# Altium integrated library ST Power Mgt Supervisory Circuit.IntLib: 14 symbols
Pins are listed as number, name and electrical type; pins without a type are passive.

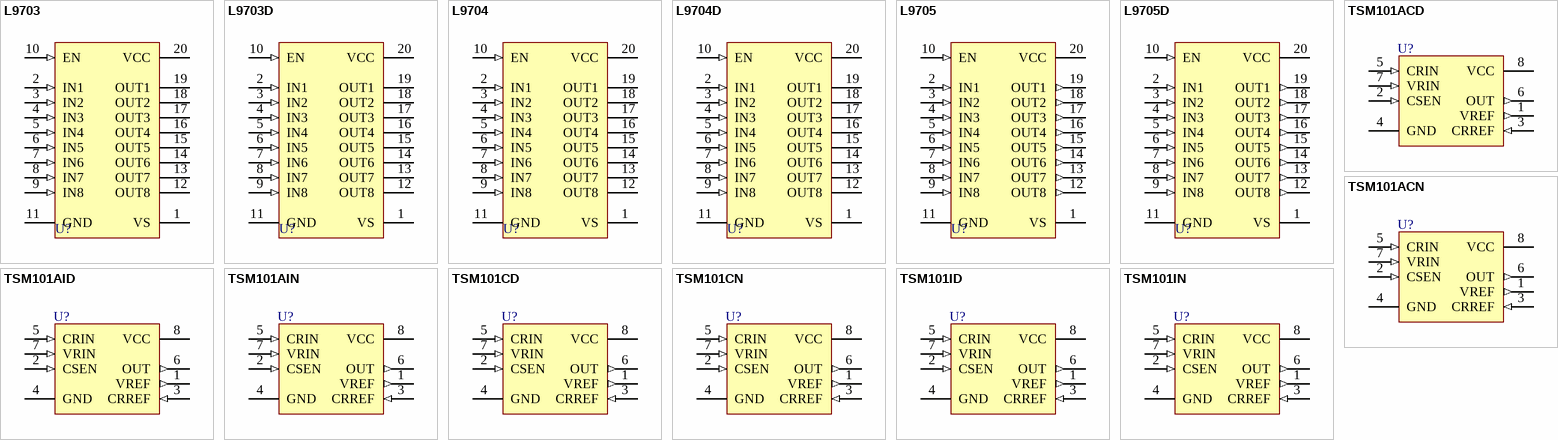
[diagram p0: symbols L9703 to TSM101IN]

## L9703
designator U?
Octal Ground Contact Monitoring Circuit; Published: 24-Aug-2001; LatestRevisionDate: 17-Jul-2002; LatestRevisionNote: Re-released for DXP Platform.; DatasheetDocument: Mar-1992; PackageDocument: Jun-1998; PackageReference: DIP20; Publisher: Altium Limited; Code_JEDEC: MS-015-AE
footprint DIP20 (DIP; 20 Leads; Row Spacing 7.62 mm; Pitch 2.54 mm)
pins: 1 VS (power), 2 IN1 (in), 3 IN2 (in), 4 IN3 (in), 5 IN4 (in), 6 IN5 (in), 7 IN6 (in), 8 IN7 (in), 9 IN8 (in), 10 EN (in), 11 GND (power), 12 OUT8 (hiz), 13 OUT7 (hiz), 14 OUT6 (hiz), 15 OUT5 (hiz), 16 OUT4 (hiz), 17 OUT3 (hiz), 18 OUT2 (hiz), 19 OUT1 (hiz), 20 VCC (power)

## L9703D
designator U?
Octal Ground Contact Monitoring Circuit; Published: 24-Aug-2001; LatestRevisionDate: 17-Jul-2002; LatestRevisionNote: Re-released for DXP Platform.; DatasheetDocument: Mar-1992; PackageDocument: Jul-2001; PackageReference: SO20; Publisher: Altium Limited; Code_JEDEC: MS-013-AC; Code_IPC: SO20W
footprint SO20 (Small Outline, Plastic; 20 Leads; Body Width 7.5 mm; Pitch 1.27 mm)
pins: 1 VS (power), 2 IN1 (in), 3 IN2 (in), 4 IN3 (in), 5 IN4 (in), 6 IN5 (in), 7 IN6 (in), 8 IN7 (in), 9 IN8 (in), 10 EN (in), 11 GND (power), 12 OUT8 (hiz), 13 OUT7 (hiz), 14 OUT6 (hiz), 15 OUT5 (hiz), 16 OUT4 (hiz), 17 OUT3 (hiz), 18 OUT2 (hiz), 19 OUT1 (hiz), 20 VCC (power)

## L9704
designator U?
Octal Supply Contact Monitoring Circuit; Published: 24-Aug-2001; LatestRevisionDate: 17-Jul-2002; LatestRevisionNote: Re-released for DXP Platform.; DatasheetDocument: Mar-1992; PackageDocument: Jun-1998; PackageReference: DIP20; Publisher: Altium Limited; Code_JEDEC: MS-015-AE
footprint DIP20 (DIP; 20 Leads; Row Spacing 7.62 mm; Pitch 2.54 mm)
pins: 1 VS (power), 2 IN1 (in), 3 IN2 (in), 4 IN3 (in), 5 IN4 (in), 6 IN5 (in), 7 IN6 (in), 8 IN7 (in), 9 IN8 (in), 10 EN (in), 11 GND (power), 12 OUT8 (hiz), 13 OUT7 (hiz), 14 OUT6 (hiz), 15 OUT5 (hiz), 16 OUT4 (hiz), 17 OUT3 (hiz), 18 OUT2 (hiz), 19 OUT1 (hiz), 20 VCC (power)

## L9704D
designator U?
Octal Supply Contact Monitoring Circuit; Published: 24-Aug-2001; LatestRevisionDate: 17-Jul-2002; LatestRevisionNote: Re-released for DXP Platform.; DatasheetDocument: Mar-1992; PackageDocument: Jul-2001; PackageReference: SO20; Publisher: Altium Limited; Code_JEDEC: MS-013-AC; Code_IPC: SO20W
footprint SO20 (Small Outline, Plastic; 20 Leads; Body Width 7.5 mm; Pitch 1.27 mm)
pins: 1 VS (power), 2 IN1 (in), 3 IN2 (in), 4 IN3 (in), 5 IN4 (in), 6 IN5 (in), 7 IN6 (in), 8 IN7 (in), 9 IN8 (in), 10 EN (in), 11 GND (power), 12 OUT8 (hiz), 13 OUT7 (hiz), 14 OUT6 (hiz), 15 OUT5 (hiz), 16 OUT4 (hiz), 17 OUT3 (hiz), 18 OUT2 (hiz), 19 OUT1 (hiz), 20 VCC (power)

## L9705
designator U?
Double Quad Contact Monitoring Circuit; Published: 24-Aug-2001; LatestRevisionDate: 17-Jul-2002; LatestRevisionNote: Re-released for DXP Platform.; DatasheetDocument: Jan-1992; PackageDocument: Mar-1995; PackageReference: PwrDIP20; Publisher: Altium Limited
footprint PwrDIP20 (DIP; 20 Leads; Row Spacing 7.62 mm; Pitch 2.54 mm)
pins: 1 VS (power), 2 IN1 (in), 3 IN2 (in), 4 IN3 (in), 5 IN4 (in), 6 IN5 (in), 7 IN6 (in), 8 IN7 (in), 9 IN8 (in), 10 EN (in), 11 GND (power), 12 OUT8 (out), 13 OUT7 (out), 14 OUT6 (out), 15 OUT5 (out), 16 OUT4 (out), 17 OUT3 (out), 18 OUT2 (out), 19 OUT1 (out), 20 VCC (power)

## L9705D
designator U?
Double Quad Contact Monitoring Circuit; Published: 24-Aug-2001; LatestRevisionDate: 17-Jul-2002; LatestRevisionNote: Re-released for DXP Platform.; DatasheetDocument: Jan-1992; PackageDocument: Jul-2001; PackageReference: SO20; Publisher: Altium Limited; Code_JEDEC: MS-013-AC; Code_IPC: SO20W
footprint SO20 (Small Outline, Plastic; 20 Leads; Body Width 7.5 mm; Pitch 1.27 mm)
pins: 1 VS (power), 2 IN1 (in), 3 IN2 (in), 4 IN3 (in), 5 IN4 (in), 6 IN5 (in), 7 IN6 (in), 8 IN7 (in), 9 IN8 (in), 10 EN (in), 11 GND (power), 12 OUT8 (out), 13 OUT7 (out), 14 OUT6 (out), 15 OUT5 (out), 16 OUT4 (out), 17 OUT3 (out), 18 OUT2 (out), 19 OUT1 (out), 20 VCC (power)

## TSM101ACD
designator U?
Voltage and Current Controller; Published: 24-Aug-2001; LatestRevisionDate: 17-Jul-2002; LatestRevisionNote: Re-released for DXP Platform.; DatasheetDocument: Jun-1999; PackageDocument: Jul-1998; PackageReference: SO8; Publisher: Altium Limited; Code_JEDEC: MS-012-AA; Code_IPC: SO8
footprint SO8 (Small Outline; 8 Leads; Body Width 3.9 mm; Pitch 1.27 mm)
pins: 1 VREF (out), 2 CSEN (in), 3 CRREF (in), 4 GND (power), 5 CRIN (in), 6 OUT (out), 7 VRIN (in), 8 VCC (power)

## TSM101ACN
designator U?
Voltage and Current Controller; Published: 24-Aug-2001; LatestRevisionDate: 17-Jul-2002; LatestRevisionNote: Re-released for DXP Platform.; DatasheetDocument: Jun-1999; PackageReference: DIP8; Publisher: Altium Limited; Code_JEDEC: MO-001-AN
footprint DIP8 (DIP; 8 Leads; Row Spacing 7.62 mm; Pitch 2.54 mm)
pins: 1 VREF (out), 2 CSEN (in), 3 CRREF (in), 4 GND (power), 5 CRIN (in), 6 OUT (out), 7 VRIN (in), 8 VCC (power)

## TSM101AID
designator U?
Voltage and Current Controller; Published: 24-Aug-2001; LatestRevisionDate: 17-Jul-2002; LatestRevisionNote: Re-released for DXP Platform.; DatasheetDocument: Jun-1999; PackageDocument: Jul-1998; PackageReference: SO8; Publisher: Altium Limited; Code_JEDEC: MS-012-AA; Code_IPC: SO8
footprint SO8 (Small Outline; 8 Leads; Body Width 3.9 mm; Pitch 1.27 mm)
pins: 1 VREF (out), 2 CSEN (in), 3 CRREF (in), 4 GND (power), 5 CRIN (in), 6 OUT (out), 7 VRIN (in), 8 VCC (power)

## TSM101AIN
designator U?
Voltage and Current Controller; Published: 24-Aug-2001; LatestRevisionDate: 17-Jul-2002; LatestRevisionNote: Re-released for DXP Platform.; DatasheetDocument: Jun-1999; PackageReference: DIP8; Publisher: Altium Limited; Code_JEDEC: MO-001-AN
footprint DIP8 (DIP; 8 Leads; Row Spacing 7.62 mm; Pitch 2.54 mm)
pins: 1 VREF (out), 2 CSEN (in), 3 CRREF (in), 4 GND (power), 5 CRIN (in), 6 OUT (out), 7 VRIN (in), 8 VCC (power)

## TSM101CD
designator U?
Voltage and Current Controller; Published: 24-Aug-2001; LatestRevisionDate: 17-Jul-2002; LatestRevisionNote: Re-released for DXP Platform.; DatasheetDocument: Jun-1999; PackageDocument: Jul-1998; PackageReference: SO8; Publisher: Altium Limited; Code_JEDEC: MS-012-AA; Code_IPC: SO8
footprint SO8 (Small Outline; 8 Leads; Body Width 3.9 mm; Pitch 1.27 mm)
pins: 1 VREF (out), 2 CSEN (in), 3 CRREF (in), 4 GND (power), 5 CRIN (in), 6 OUT (out), 7 VRIN (in), 8 VCC (power)

## TSM101CN
designator U?
Voltage and Current Controller; Published: 24-Aug-2001; LatestRevisionDate: 17-Jul-2002; LatestRevisionNote: Re-released for DXP Platform.; DatasheetDocument: Jun-1999; PackageReference: DIP8; Publisher: Altium Limited; Code_JEDEC: MO-001-AN
footprint DIP8 (DIP; 8 Leads; Row Spacing 7.62 mm; Pitch 2.54 mm)
pins: 1 VREF (out), 2 CSEN (in), 3 CRREF (in), 4 GND (power), 5 CRIN (in), 6 OUT (out), 7 VRIN (in), 8 VCC (power)

## TSM101ID
designator U?
Voltage and Current Controller; Published: 24-Aug-2001; LatestRevisionDate: 17-Jul-2002; LatestRevisionNote: Re-released for DXP Platform.; DatasheetDocument: Jun-1999; PackageDocument: Jul-1998; PackageReference: SO8; Publisher: Altium Limited; Code_JEDEC: MS-012-AA; Code_IPC: SO8
footprint SO8 (Small Outline; 8 Leads; Body Width 3.9 mm; Pitch 1.27 mm)
pins: 1 VREF (out), 2 CSEN (in), 3 CRREF (in), 4 GND (power), 5 CRIN (in), 6 OUT (out), 7 VRIN (in), 8 VCC (power)

## TSM101IN
designator U?
Voltage and Current Controller; Published: 24-Aug-2001; LatestRevisionDate: 17-Jul-2002; LatestRevisionNote: Re-released for DXP Platform.; DatasheetDocument: Jun-1999; PackageReference: DIP8; Publisher: Altium Limited; Code_JEDEC: MO-001-AN
footprint DIP8 (DIP; 8 Leads; Row Spacing 7.62 mm; Pitch 2.54 mm)
pins: 1 VREF (out), 2 CSEN (in), 3 CRREF (in), 4 GND (power), 5 CRIN (in), 6 OUT (out), 7 VRIN (in), 8 VCC (power)